# EAGLE library part 1X07 (library Ai_Connectors)
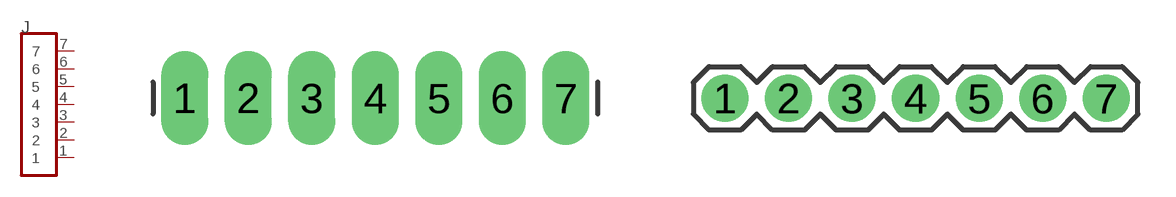
[diagram p3: symbol with the pads of 1X07-LONG; footprints 1X07-LONG, 1X07]

Designator prefix J

## 1X07LONG  [1X07-LONG]
1  1
2  2
3  3
4  4
5  5
6  6
7  7

## 1X07  [1X07]
Pads as for 1X07-LONG

## 1X07NOFIRST  [1X07-NOFIRST]
Pads as for 1X07-LONG

## Footprint 1X07-LONG (pad centres in mm)
drill 1.118 pad 1.88 long: 1 -7.62,0; 2 -5.08,0; 3 -2.54,0; 4 0,0; 5 2.54,0; 6 5.08,0; 7 7.62,0

## Footprint 1X07 (pad centres in mm)
drill 1.016 pad 1.88: 1 -7.62,0; 2 -5.08,0; 3 -2.54,0; 4 0,0; 5 2.54,0; 6 5.08,0; 7 7.62,0

## Footprint 1X07-NOFIRST (pad centres in mm)
drill 1.016 pad 1.88: 1 -7.62,0; 2 -5.08,0; 3 -2.54,0; 4 0,0; 5 2.54,0; 6 5.08,0; 7 7.62,0